# Altium schematic symbol library 1N5360BG.SchLib: 1 symbol
Pins are listed as number, name and electrical type; pins without a type are passive.

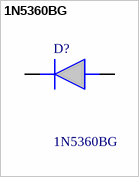
[diagram p0: symbol 1N5360BG]

## 1N5360BG
designator D?
ON Semiconductor 1N5360BG Zener Diode, 25V 5% 5 W Through Hole 2-Pin DO-15; Manufacturer_Name: onsemi; Manufacturer_Part_Number: 1N5360BG; Mouser Part Number: 863-1N5360BG; Mouser Price/Stock: https://www.mouser.co.uk/ProductDetail/onsemi/1N5360BG?qs=y2kkmE52mdN6P0RyIJSeLg%3D%3D; Arrow Part Number: 1N5360BG; Arrow Price/Stock: https://www.arrow.com/en/products/1n5360bg/on-semiconductor?utm_currency=USD&region=nac; Datasheet Link: https://www.mouser.in/datasheet/2/308/1N5333B-D-102336.pdf
footprint DIOAD2260W109L864D349
pins: 1 K, 2 A